# Altium schematic symbol library ESender_SCH_Lib.SchLib: 87 symbols (part 1 of 2)
Pins are listed as number, name and electrical type; pins without a type are passive.

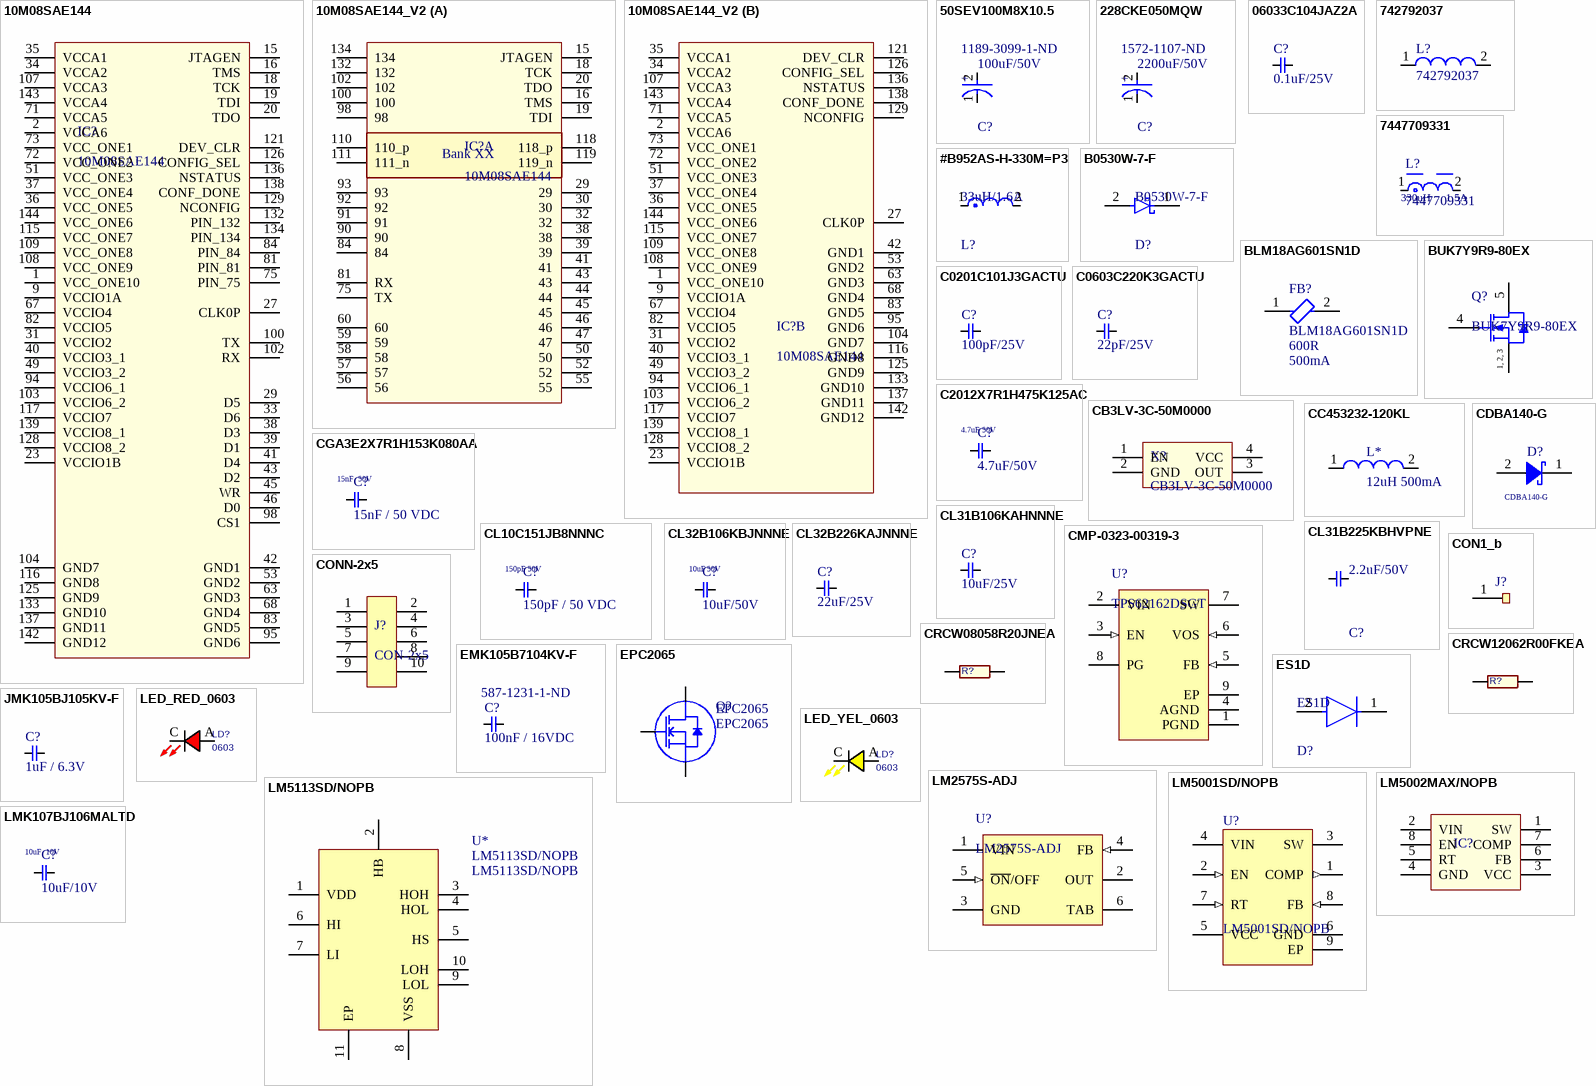
[diagram p0: symbols 10M08SAE144 to LMK107BJ106MALTD]

## 10M08SAE144
designator IC?
Manufacturer Part Number: 10M08SAE144C8G; Manufacturer: Intel; Supplier 1: Digi-Key; Supplier Part Number 1: 544-3132-ND
footprint SQFP50P2200X2200X200-144N (SQFP, 144-Leads, Body 20.00x20.00mm, Pitch 0.50mm, IPC Medium Density)
pins: 1 VCC_ONE10, 2 VCCA6, 9 VCCIO1A, 15 JTAGEN, 16 TMS, 18 TCK, 19 TDI, 20 TDO, 23 VCCIO1B, 27 CLK0P, 29 D5, 31 VCCIO2, 33 D6, 34 VCCA2, 35 VCCA1, 36 VCC_ONE5, 37 VCC_ONE4, 38 D3, 39 D1, 40 VCCIO3_1, 41 D4, 42 GND1, 43 D2, 45 WR, 46 D0, 49 VCCIO3_2, 51 VCC_ONE3, 53 GND2, 63 GND3, 67 VCCIO4, 68 GND4, 71 VCCA5, 72 VCC_ONE2, 73 VCC_ONE1, 75 PIN_75, 81 PIN_81, 82 VCCIO5, 83 GND5, 84 PIN_84, 94 VCCIO6_1, 95 GND6, 98 CS1, 100 TX, 102 RX, 103 VCCIO6_2, 104 GND7, 107 VCCA3, 108 VCC_ONE9, 109 VCC_ONE8, 115 VCC_ONE7, 116 GND8, 117 VCCIO7, 121 DEV_CLR, 125 GND9, 126 CONFIG_SEL, 128 VCCIO8_2, 129 NCONFIG, 132 PIN_132, 133 GND10, 134 PIN_134, 136 NSTATUS, 137 GND11, 138 CONF_DONE, 139 VCCIO8_1, 142 GND12, 143 VCCA4, 144 VCC_ONE6

## 10M08SAE144_V2
designator IC?, comment 10M08SAE144
Manufacturer Part Number: 10M08SAE144C8G; Manufacturer: Intel; Supplier 1: Digi-Key; Supplier Part Number 1: 544-3132-ND
footprint SQFP50P2200X2200X200-144N (SQFP, 144-Leads, Body 20.00x20.00mm, Pitch 0.50mm, IPC Medium Density)
part A pins: 15 JTAGEN, 16 TMS, 18 TCK, 19 TDI, 20 TDO, 29, 30, 32, 38, 39, 41, 43, 44, 45, 46, 47, 50, 52, 55, 56, 57, 58, 59, 60, 75 TX, 81 RX, 84, 90, 91, 92, 93, 98, 100, 102, 110 110_p, 111 111_n, 118 118_p, 119 119_n, 132, 134
part B pins: 1 VCC_ONE10, 2 VCCA6, 9 VCCIO1A, 23 VCCIO1B, 27 CLK0P, 31 VCCIO2, 34 VCCA2, 35 VCCA1, 36 VCC_ONE5, 37 VCC_ONE4, 40 VCCIO3_1, 42 GND1, 49 VCCIO3_2, 51 VCC_ONE3, 53 GND2, 63 GND3, 67 VCCIO4, 68 GND4, 71 VCCA5, 72 VCC_ONE2, 73 VCC_ONE1, 82 VCCIO5, 83 GND5, 94 VCCIO6_1, 95 GND6, 103 VCCIO6_2, 104 GND7, 107 VCCA3, 108 VCC_ONE9, 109 VCC_ONE8, 115 VCC_ONE7, 116 GND8, 117 VCCIO7, 121 DEV_CLR, 125 GND9, 126 CONFIG_SEL, 128 VCCIO8_2, 129 NCONFIG, 133 GND10, 136 NSTATUS, 137 GND11, 138 CONF_DONE, 139 VCCIO8_1, 142 GND12, 143 VCCA4, 144 VCC_ONE6
part A text: Bank XX

## 50SEV100M8X10.5
designator C?, comment 100uF/50V  Supplier Part Number 1: 1189-3099-1-ND
100 µF 50 V Aluminum Electrolytic Capacitors Radial, Can - SMD 2000 Hrs @ 85°C; Manufacturer: Rubycon; Manufacturer Part Number: 50SEV100M8X10.5; Capacitance: 100uF; Life (Hours): 2000Hour; Polarity: Polar; Q Factor: 0.12; Ripple Current: 320mA; Tolerance: 20%; Voltage Rating: 50V; Case/Package: Radial; Category: Aluminum Electrolytic Capacitors; Construction: Cylindrical; Diameter: 8mm; Height: 10.5mm; Height - Seated (Max): 0.413inch; Lead Free: Lead Free; Max Operating Temperature: 85°C; Min Operating Temperature: -40°C; Mount: Surface Mount; Package Quantity: 500; Packaging: Tape and Reel; Radiation Hardening: No; RoHS Compliant: Yes; Series: SEV; ComponentLink1URL: https://datasheet.ciiva.com/6317/sev-series-6317454.pdf?src-supplier=Digi-Key; ComponentLink1Description: https://datasheet.ciiva.com/6317/sev-series-6317454.pdf?src-supplier=Digi-Key; Supplier 1: Digi-Key
footprint FP-SGV8X10_5-MFG
pins: 1 C, 2 A
text: +

## 228CKE050MQW
designator C?, comment 2200uF/50V  Supplier Part Number 1: 1572-1107-ND
2200 µF 50 V Aluminum Electrolytic Capacitors Radial, Can 105.5mOhm @ 120Hz 2000 Hrs @ 105°C; Manufacturer: CDE Illinois Capacitor; Manufacturer Part Number: 228CKE050MQW; Voltage Rating (DC): 50V; Capacitance: 2.2mF; ESR (Equivalent Series Resistance): 105.5mR; Life (Hours): 2000Hour; Polarity: Polar; Ripple Current: 1.41A; Tolerance: 20%; Case/Package: Radial; Category: Aluminum Electrolytic Capacitors; Height - Seated (Max): 1.24inch; Lead Pitch: 0.295inch; Max Operating Temperature: 105°C; Min Operating Temperature: -40°C; Mount: Through Hole,PCB; Package Quantity: 50; Packaging: Bulk; Voltage Rating: 50V; ComponentLink1URL: https://datasheet.ciiva.com/14585/70111748-14585886.pdf?src-supplier=Allied+Electronics; ComponentLink1Description: https://datasheet.ciiva.com/14585/70111748-14585886.pdf?src-supplier=Allied+Electronics; Supplier 1: Digi-Key
footprint FP-228CKE050MQW (CAP ALUM 2200UF 20% 50V RADIAL)
pins: 1 C, 2 A
text: +

## 06033C104JAZ2A
designator C?, comment 0.1uF/25V
0.1µF ±5% 25V Ceramic Capacitor X7R 0603 (1608 Metric); Manufacturer: Kyocera AVX; Manufacturer Part Number: 06033C104JAZ2A; Capacitance: 100nF; ComponentLink1URL: http://catalogs.avx.com/SurfaceMount.pdf?src-supplier=Digi-Key; ComponentLink1Description: http://catalogs.avx.com/SurfaceMount.pdf?src-supplier=Digi-Key; Case/Package: 0603; Category: Ceramic Capacitors; Dielectric: X7R; Features: Soft Termination; Length: 0.063inch; Max Operating Temperature: 125°C; Min Operating Temperature: -55°C; Mount: Surface Mount; Package Quantity: 4000; Packaging: Tape and Reel; RoHS Compliant: Yes; Thickness: 0.035inch; Tolerance: 5%; Voltage Rating: 25V; Voltage Rating (DC): 25V; Width: 0.031inch
footprint C-0603 (Capacitors 0603)
pins: 1 G, 2 G

## 742792037
designator L?
SMD EMI Suppression Ferrite Bead WE-CBF, Z = 330 Ohm; Impedance: 330 Ohm; PackageReference: SMD-0805; ComponentLink1URL: http://www.we-online.com; PackageVersion: 2005; ComponentLink2URL: http://www.we-online.de/katalog/media/pdf/742792037.pdf; ComponentLink1Description: Manufacturer Link; DatasheetVersion: Dec-2005; PackageDescription: Chip Inductor, 2-Leads, Body 2.0 x 1.2 mm; ComponentLink2Description: Datasheet
footprint SMD-0805 (Chip Inductor, 2-Leads, Body 2.0x1.2mm)
pins: 1, 2

## 7447709331
designator L?  RMS Current (Irms): 1.5A  Inductance: 330uH
FIXED IND 330UH 1.5A 430MOHM SMD; Manufacturer: Wurth Electronics; Core Material: Ferrite; DC Resistance (DCR): 430mR; Inductance Tolerance: 20%; Saturation Current: 1.7A; Self Resonant Frequency: 2MHz; Shielding: Shielded; Test Frequency: 1kHz; Supplier Unit Price 1: $2.57; Case Code (Imperial): 1210; Case Code (Metric): 3225; Case/Package: Nonstandard; Category: Fixed Inductors; Current Rating: 1.5A; Depth: 12mm; Height: 10mm; Height - Seated (Max): 0.394inch; Lead Free: Lead Free; Lead Pitch: 7mm; Length: 12mm; Max DC Current: 1.5A; Max Operating Temperature: 125°C; Min Operating Temperature: -40°C; Mount: Surface Mount; Package Quantity: 250; Packaging: Tape and Reel; REACH SVHC: Unknown; Resistance: 430mR; Resistor Type: Wirewound; RoHS Compliant: Yes; Series: WE-PD; Series Resistance: 430mR; Termination: SMD/SMT; Tolerance: 20%; Width: 12mm; Supplier 1: Digi-Key; Supplier Part Number 1: 732-1698-1-ND; Supplier Packaging 1: Cut Tape; Supplier Location 1: US; Supplier 2: Mouser; Supplier Part Number 2: 710-7447709331; Supplier Packaging 2: Tape & Reel; Supplier Unit Price 2: $2.57; Supplier Location 2: US; Supplier 3: Farnell; Supplier Part Number 3: 2082655; Supplier Packaging 3: Cut Tape; Supplier Unit Price 3: £1.88; Supplier Location 3: GB; Manufacturer Part Number: 7447709331
footprint FP-7447709680-MFG
pins: 1, 2

## #B952AS-H-330M=P3
designator L?, comment 33uH/1.6A
Shielded Wirewound Inductor 33uH 20% 1600mA 0.125Ω SMD; Current Rating: 1.6A; Saturation Current: 2A; DC Resistance (DCR): 125mR; Core Material: Ferrite; Test Frequency: 100kHz; Shielding: Shielded; Tolerance: 20%; Height - Seated (Max): 0.19inch; Mount: Surface Mount; Resistor Type: Wirewound; Inductance: 33uH; Packaging: Tape and Reel; Min Operating Temperature: -40°C; Length: 0.409inch; Width: 0.409inch; Case/Package: Nonstandard; Max Operating Temperature: 85°C
footprint FP-DS104C2-MFG
pins: 1, 2

## B0530W-7-F
designator D?
DIODE SCHOTTKY 30V 500MA SOD123; Manufacturer: Diodes Inc.; Max Surge Forward Current: 5.5A; Forward Current: 0.5A; Max Junction Temp: +125°C; Standoff Height: 0mm; Capacitance: 170pF; Value: 170pF; Peak Reverse Current: 130uA; Footprint Url: https://www.diodes.com/assets/Package-Files/SOD123.pdf; Device Class L1: Discrete Semiconductors; ComponentLink2Description: Datasheet; Mouser Description: Schottky Diodes & Rectifiers 30V 410mW; Device Class L3: Schottky Diodes; Package: SOD123; Temperature: -65°C to +125°C; Temperature Range Low: -65°C; Lead Free: Yes; Digikey Description: DIODE SCHOTTKY 30V 500MA SOD123; Ipc Land Pattern Name: SOD365155X123-2; Automotive: No; Octopart: https://octopart.com/b0530w-7-f-diodes+inc.-325721; Device Class L2: Diodes; ComponentLink2URL: https://www.diodes.com/assets/Datasheets/ds30139.pdf; RoHS: TRUE; Height: 1.45mm; Max Repetitive Reverse Voltage: 30V; Category: Diode; Temperature Range High: +125°C; Manufacturer Part Number: B0530W-7-F; Reverse Voltage: 30V
footprint FP-SOD123-IPC_B
pins: 1 C, 2 A

## BLM18AG601SN1D
designator FB?  Impedance: 600R  Max DC Current: 500mA
600 Ohms @ 100 MHz 1 Ferrite Bead 0603 (1608 Metric) 500mA 380mOhm; Manufacturer: Murata; DC Resistance (DCR): 380mR; Frequency: 100MHz; Material: Steel,Ferrite; Number of Circuits: 1; Shielding: Unshielded; Tolerance: 25%; Supplier Part Number 2: 81-BLM11A601S; Case Code (Imperial): 0603; Case Code (Metric): 1608; Case/Package: 0603; Category: Inductors; Core Material: Ferrite; Current Rating: 500mA; DC Current: 500mA; Depth: 0.8mm; Height: 0.8mm; Lead Free: Lead Free; Length: 1.6mm; Max Current Rating: 500mA; Max Operating Temperature: 125°C; Military Standard: Not; Min Operating Temperature: -55°C; Number of Lines: 1; Number of Pins: 2; Package Quantity: 1; Packaging: Tape and Reel; Radiation Hardening: No; REACH SVHC: No SVHC; RoHS Compliant: Yes; Termination: SMD/SMT; Test Frequency: 100MHz; Weight: 7.1E-05oz; Width: 0.8mm; Supplier 1: Digi-Key; Supplier Part Number 1: 490-1014-1-ND; Supplier Packaging 1: Cut Tape; Supplier Unit Price 1: $0.10; Supplier Location 1: US; Supplier 2: Mouser; Supplier Packaging 2: Tape & Reel; Supplier Unit Price 2: $0.13; Supplier Location 2: US; Supplier 3: Farnell; Supplier Part Number 3: 1515679; Supplier Packaging 3: Cut Tape; Supplier Unit Price 3: £0.027; Supplier Location 3: GB; Manufacturer Part Number: BLM18AG601SN1D
footprint BLM18AG601SN1D
footprint FP-BLM31-0_2-t1_1-MFG
pins: 1, 2

## BUK7Y9R9-80EX
designator Q?
N-Channel 80V 89A (Tc) 195W (Tc) Surface Mount LFPAK56, Power-SO8; Manufacturer: Nexperia; Category: MOSFETs; Manufacturer Part Number: BUK7Y9R9-80EX; RoHS Compliant: No; ComponentLink1URL: https://assets.nexperia.com/documents/data-sheet/BUK7Y9R9-80E.pdf?src-supplier=Digi-Key; ComponentLink1Description: https://assets.nexperia.com/documents/data-sheet/BUK7Y9R9-80E.pdf?src-supplier=Digi-Key
footprint NXP-SOT669_N (DPAK, 4-Leads, Body 5x4.1mm, Pitch 1.27mm, IPC Medium Density)
footprint BUK7Y9R) (MOS FET)
pins: 1 S "source", 2 S "source", 3 S "source", 4 G "gate", 5 D "mounting base; connected to drain"
text: 1, 2, 3

## C0201C101J3GACTU
designator C?, comment 100pF/25V
100pF ±5% 25V Ceramic Capacitor C0G, NP0 0201 (0603 Metric); Manufacturer: KEMET; Manufacturer Part Number: C0201C101J3GACTU; Capacitance: 100pF; Case Code (Imperial): 0201; Case Code (Metric): 0603; Case/Package: 0201; Category: Ceramic Capacitors; Construction: Flat; Depth: 0.3mm; Dielectric: C0G; Height: 0.3mm; Length: 0.6mm; Max Operating Temperature: 125°C; Min Operating Temperature: -55°C; Mount: Surface Mount; Package Quantity: 1; Packaging: Tape and Reel; Radiation Hardening: No; RoHS Compliant: Yes; Series: C; Thickness: 0.013inch; Tolerance: 5%; Voltage: 25V; Voltage Rating: 25V; Width: 0.3mm; ComponentLink1URL: https://datasheet.ciiva.com/25795/cl31b106kahnnne-25795260.pdf?src-supplier=Digi-Key; ComponentLink1Description: https://datasheet.ciiva.com/25795/cl31b106kahnnne-25795260.pdf?src-supplier=Digi-Key; Contact Plating: Tin,Matte; REACH SVHC: No SVHC; Termination: SMD/SMT; Voltage Rating (DC): 25V; Weight: 6E-06oz
footprint C-0603 (Capacitors 0603)
pins: 1 G, 2 G

## C0603C220K3GACTU
designator C?, comment 22pF/25V
22pF ±10% 25V Ceramic Capacitor C0G, NP0 0603 (1608 Metric); Manufacturer: KEMET; Manufacturer Part Number: C0603C220K3GACTU; Dissipation Factor: 0.1%; Width: 0.031inch; Capacitance: 22pF; Case Code (Imperial): 0603; Case Code (Metric): 1608; Case/Package: 0603; Category: Ceramic Capacitors; Construction: Flat; Contact Plating: Tin,Matte; Depth: 0.8mm; Dielectric: C0G; Dielectric Material: Ceramic; Height: 0.8mm; Lead Free: Lead Free; Lead Pitch: 0.7mm; Length: 1.6mm; Max Operating Temperature: 125°C; Min Operating Temperature: -55°C; Mount: Surface Mount; Package Quantity: 4000; Packaging: Tape and Reel; Radiation Hardening: No; RoHS Compliant: Yes; Series: C; Termination: SMD/SMT; Thickness: 0.034inch; Tolerance: 10%; Voltage Rating: 25V; Voltage Rating (DC): 25V; ComponentLink1URL: https://datasheet.ciiva.com/5413/kem-c1003-c0g-smd-356956-5413159.pdf?src-supplier=Mouser; ComponentLink1Description: https://datasheet.ciiva.com/5413/kem-c1003-c0g-smd-356956-5413159.pdf?src-supplier=Mouser
footprint C-0603 (Capacitors 0603)
pins: 1 G, 2 G

## C2012X7R1H475K125AC
designator C?, comment 4.7uF/50V  Voltage: 50V  Capacitance: 4.7uF
4.7uF 50V 10% 0805 T/R Multilayer Ceramic Capacitor; Manufacturer: TDK; Manufacturer Part Number: C2012X7R1H475K125AC; Category: Ceramic Capacitors; RoHS Compliant: No; Supplier 1: Digi-Key; RoHS: Yes; Stock 1: 123424; Pricing 1: 1=0.57000, 10=0.40600, 50=0.30680, 100=0.26730, 500=0.19800, 1000=0.16830 (USD); Supplier 2: Mouser; Supplier Part Number 2: 810-C2012X7R475K125C; Supplier Part Number 1: 445-C2012X7R1H475K125ACCT-ND
footprint FP-C2012X7R1H475K125AC-IPC_B
pins: 1 G, 2 G

## CB3LV-3C-50M0000
designator X?
Manufacturer: CTS-Frequency Controls; Supplier 1: Digi-Key; Supplier Part Number 1: CTX283LVCT-ND; Manufacturer Part Number: CB3LV-3C-50M0000
footprint OSC
pins: 1 EN, 2 GND, 3 OUT, 4 VCC

## CC453232-120KL
designator L*, comment 12uH 500mA
choke ferrite 12uH, 500mA
footprint 1812
pins: 1, 2

## CDBA140-G
designator D?, comment Manufacturer Part Number: CDBA140-G  (hidden comment: DIODE SCHOTTKY 40V 1A DO214AC)
Diode Schottky 40 V 1A Surface Mount DO-214AC (SMA); Manufacturer: Comchip; Max Reverse Leakage Current: 500uA; Max Surge Current: 30A; Polarity: Standard; Voltage Rating (DC): 40V; Average Rectified Current: 1A; Case/Package: DO-214AC; Category: Rectifier Diodes; Current Rating: 1A; Lead Free: Lead Free; Max Reverse Voltage (DC): 40V; Mount: Surface Mount; Output Current: 1A; Package Quantity: 1; Packaging: Tape and Reel; RoHS Compliant: Yes; ComponentLink1URL: https://datasheet.ciiva.com/912/cdba120-gthru934256-cdba1100-grevc-912051.pdf?src-supplier=Digi-Key; ComponentLink1Description: https://datasheet.ciiva.com/912/cdba120-gthru934256-cdba1100-grevc-912051.pdf?src-supplier=Digi-Key; Supplier 1: Digi-Key; Supplier 2: Mouser; Supplier Part Number 1: 641-1015-1-ND; Supplier Part Number 2: 750-CDBA140-G
footprint FP-SMA-MFG
pins: 1 K, 2 A

## CGA3E2X7R1H153K080AA
designator C?, comment 15nF / 50 VDC  Capacitance: 15nF  Voltage Rating: 50V
15 nF 50V ±10%  Ceramic Capacitor X7R 0603 (1608 Metric); Manufacturer: TDK; Manufacturer Part Number: CGA3E2X7R1H153K080AA; Case Code (Imperial): 0603; Case Code (Metric): 1608; Case/Package: 0603; Category: Ceramic Capacitors; Depth: 0.8mm; Dielectric: X7R; Height: 0.8mm; Length: 1.6mm; Max Operating Temperature: 125°C; Min Operating Temperature: -55°C; Mount: Surface Mount; Package Quantity: 1; Packaging: Tape and Reel; Ratings: AEC-Q200; Resistor Type: Ceramic; RoHS Compliant: Yes; Series: CGA; Termination: SMD/SMT; Thickness: 0.035inch; Tolerance: 10%; Voltage Rating (DC): 50V; Weight: 7.1E-05oz; Width: 0.031inch; ComponentLink1URL: https://datasheet.ciiva.com/24219/cga3e2x7r1h153k080aa-266046-24219120.pdf?src-supplier=Mouser; ComponentLink1Description: https://datasheet.ciiva.com/24219/cga3e2x7r1h153k080aa-266046-24219120.pdf?src-supplier=Mouser; Supplier 1: Digi-Key; Supplier 2: Mouser; Supplier Part Number 1: 445-6923-1-ND; Supplier Part Number 2: 810-CGA3E2X7R1H153K
footprint FP-0603-UMK107BJ104KAHT-IPC_B
pins: 1 G, 2 G

## CL10C151JB8NNNC
designator C?, comment 150pF / 50 VDC  Capacitance: 150pF  Voltage Rating (DC): 50V
150 pF ±5% 50V Ceramic Capacitor C0G, NP0 0603 (1608 Metric); Manufacturer: Samsung; Manufacturer Part Number: CL10C151JB8NNNC; Temperature Coefficient: 300ppm/°C; Case Code (Imperial): 0603; Case Code (Metric): 1608; Case/Package: 0603; Category: Ceramic Capacitors; Construction: Flat; Contact Plating: Tin; Depth: 0.8mm; Dielectric: C0G; Height: 0.8mm; Lead Free: Lead Free; Length: 1.6mm; Material: Ceramic; Max Operating Temperature: 125°C; Min Operating Temperature: -55°C; Mount: Surface Mount; Package Quantity: 1; Packaging: Tape and Reel; Radiation Hardening: No; RoHS Compliant: Yes; Series: CL; Thickness: 0.035inch; Tolerance: 5%; Voltage: 50V; Voltage Rating: 50V; Width: 0.031inch; ComponentLink1URL: https://datasheet.ciiva.com/15195/getdatasheetpartid-354057-15195800.pdf?src-supplier=Verical; ComponentLink1Description: https://datasheet.ciiva.com/15195/getdatasheetpartid-354057-15195800.pdf?src-supplier=Verical
footprint FP-CL10-IPC_B
pins: 1 G, 2 G

## CL31B106KAHNNNE
designator C?, comment 10uF/25V
10µF ±10% 25V Ceramic Capacitor X7R 1206 (3216 Metric); Manufacturer: Samsung; Manufacturer Part Number: CL31B106KAHNNNE; Capacitance: 10uF; Case Code (Imperial): 1206; Case Code (Metric): 3216; Case/Package: 1206; Category: Ceramic Capacitors; Construction: Flat; Depth: 1.6mm; Dielectric: X7R; Height: 1.6mm; Length: 3.2mm; Max Operating Temperature: 125°C; Min Operating Temperature: -55°C; Mount: Surface Mount; Package Quantity: 1; Packaging: Tape and Reel; Radiation Hardening: No; RoHS Compliant: Yes; Series: CL; Thickness: 0.071inch; Tolerance: 10%; Voltage: 25V; Voltage Rating: 25V; Width: 0.063inch; ComponentLink1URL: https://datasheet.ciiva.com/25795/cl31b106kahnnne-25795260.pdf?src-supplier=Digi-Key; ComponentLink1Description: https://datasheet.ciiva.com/25795/cl31b106kahnnne-25795260.pdf?src-supplier=Digi-Key
footprint C-1206 (3216 metric)
pins: 1 G, 2 G

## CL31B225KBHVPNE
designator C?, comment 2.2uF/50V
Cap Ceramic 2.2uF 50V X7R ±10% SMD 1206 +125°C Embossed T/R; Width: 0.063inch; Case/Package: 1206; Tolerance: 10%; Mount: Surface Mount; Capacitance: 2.2uF; Ratings: AEC-Q200; Thickness: 0.071inch; Voltage Rating: 50V; Features: Soft Termination; Case Code (Metric): 3216; Length: 0.126inch; Packaging: Tape and Reel; Max Operating Temperature: 125°C; Min Operating Temperature: -55°C; Case Code (Imperial): 1206; Dielectric: X7R
footprint FP-CL31-IPC_B
pins: 1 G, 2 G

## CL32B106KBJNNNE
designator C?, comment 10uF/50V  Voltage: 50V  Capacitance: 10uF
10 µF 50V ±10%  Ceramic Capacitor X7R 1210 (3225 Metric); Manufacturer: Samsung; Manufacturer Part Number: CL32B106KBJNNNE; Supplier 1: Mouser; Supplier 2: Mouser; Case Code (Imperial): 1210; Case Code (Metric): 3225; Case/Package: 1210; Category: Ceramic Capacitors; Construction: Flat; Depth: 2.5mm; Dielectric: X7R; Height: 2.5mm; Lead Free: Lead Free; Length: 3.2mm; Material: Ceramic; Max Operating Temperature: 125°C; Min Operating Temperature: -55°C; Mount: Surface Mount; Package Quantity: 1; Packaging: Tape and Reel; Radiation Hardening: No; RoHS Compliant: Yes; Series: CL; Thickness: 0.106inch; Tolerance: 10%; Voltage Rating: 50V; Voltage Rating (DC): 50V; Width: 0.098inch; Supplier Packaging 1: Tape & Reel; Supplier Unit Price 1: $0.59; Supplier Location 1: US; ComponentLink1URL: https://datasheet.ciiva.com/25766/cl32b106kbjnnne-25766545.pdf?src-supplier=Digi-Key; ComponentLink1Description: https://datasheet.ciiva.com/25766/cl32b106kbjnnne-25766545.pdf?src-supplier=Digi-Key; Supplier Part Number 1: 187-CL32B106KBJNNNE; Supplier Part Number 2: 187-CL32B106KBJNNNE
footprint CAP-1210 10u/50V
footprint CAP-1210 (Capacitors, SMD, 1210)
pins: 1 G, 2 G

## CL32B226KAJNNNE
designator C?, comment 22uF/25V
22µF ±10% 25V Ceramic Capacitor X7R 1210 (3225 Metric); Manufacturer: Samsung; Manufacturer Part Number: CL32B226KAJNNNE; Capacitance: 22uF; Case Code (Imperial): 1210; Case Code (Metric): 3225; Case/Package: 1210; Category: Ceramic Capacitors; Construction: Flat; Depth: 2.5mm; Dielectric: X7R; Height: 2.5mm; Lead Free: Lead Free; Length: 3.2mm; Material: Ceramic; Max Operating Temperature: 125°C; Min Operating Temperature: -55°C; Mount: Surface Mount; Package Quantity: 1; Packaging: Tape and Reel; Radiation Hardening: No; RoHS Compliant: Yes; Series: CL; Thickness: 0.106inch; Tolerance: 10%; Voltage Rating: 25V; Voltage Rating (DC): 25V; Width: 0.098inch
footprint CAP-1210 (Capacitors, SMD, 1210)
pins: 1 G, 2 G

## CMP-0323-00319-3
designator U?, comment TPS62162DSGT
Buck Step Down Regulator with 3 to 17 V Input and 3.3 V Output, -40 to 85 degC, 8-Pin WSON (DSG), Green (RoHS & no Sb/Br); Manufacturer: Texas Instruments; Synchronous Rectification: TRUE; Iq(Typ)(mA): 0.017; Switch Current Limit(Typ)(A): 1.8; Regulated Outputs(#): 1; Duty Cycle(Max)(%): 100; SubFamily: Step-Down Regulator; Preset Vout(V): 3.3; Rating: Catalog; Vin(Max)(V): 17; Vin(Min)(V): 3; ComponentLink2Description: Package Specification; PackageVersion: revB, Oct-2010; DatasheetVersion: SLVSAM2A; ComponentLink1Description: Datasheet; PackageDescription: 8-Pin Plastic Small Outline No-Lead, 2 x 2 x 0.8 mm Body, 0.5 mm Pitch, Exposed Pad; ComponentLink2URL: http://www.ti.com/litv/pdf/mpds308a; Code_JEDEC: MO-229; PartNumber: TPS62162DSGT; ComponentLink3URL: Samples URL:http://www.ti.com/product/tps54611#samples; Mounting Technology: Surface Mount; Eco-Plan: Green (RoHS & no Sb/Br); Vout(Min)(V): 3.3; PackageReference: DSG0008A; Topology: Buck; ComponentLink1URL: http://www.ti.com/general/docs/lit/getliterature.tsp?genericPartNumber=TPS62162&fileType=pdf; Vout(Max)(V): 3.3; Iout(Max)(A): 1; ComponentLink3Description: URL Link1
footprint DSG0008A_V (SON, 8-Leads, Body 2x2mm, Pitch 0.5mm, Thermal Pad 1.6x0.9mm, TI Recommended)
pins: 1 PGND (power) "Power ground", 2 VIN (power) "Supply voltage", 3 EN (in) "Enable input (High = enabled, Low = disabled)", 4 AGND (power) "Analog Ground", 5 FB (in) "Voltage feedback of adjustable version. Connect resistive voltage divider to this pin. It is recommended to connect FB to AGND on fixed output voltage versions for improved thermal performance.", 6 VOS (in) "Output voltage sense pin and connection for the control loop circuitry.", 7 SW (power) "Switch node, which is connected to the internal MOSFET switches.Connect inductor between SW and output capacitor.", 8 PG (hiz) "Output power good (High = VOUT ready, Low = VOUT below nominal regulation) ; open drain (requires pull-up resistor; goes high impedance, when device is switched off)", 9 EP (power) "Must be connected to AGND. Must be soldered to achieve appropriate power dissipation and mechanical Thermal Pad reliability."

## CON1_b
designator J?  (value not drawn)
footprint CONN1 _b
pins: 1 23

## CONN-2x5
designator J?, comment CON-2x5
Manufacturer: Harwin Inc.; Manufacturer Part Number: M20-9970546
footprint PIN-2X5-2.54-1.0 (Pin Header)
pins: 1 VCC, 2 VCC, 3 VCC, 4 VCC, 5 VCC, 6 VCC, 7 VCC, 8 VCC, 9 VCC, 10 VCC

## CRCW08058R20JNEA
designator R?, comment 8.2R  (value not drawn)
8.2 Ohms ±5% 0.125W, 1/8W Chip Resistor 0805 (2012 Metric) Automotive AEC-Q200 Thick Film; Manufacturer: Vishay Dale; Manufacturer Part Number: CRCW08058R20JNEA; Max Power Dissipation: 125mW; Temperature Coefficient: 200ppm/°C; Voltage Rating: 150V; Case Code (Imperial): 0805; Case Code (Metric): 2012; Case/Package: 0805; Category: Chip SMD Resistors; Construction: Rectangular; Contact Plating: Tin; Depth: 1.25mm; Features: Automotive AEC-Q200; Height: 0.02inch; Lead Free: Lead Free; Length: 2mm; Max Operating Temperature: 155°C; Military Standard: Not; Min Operating Temperature: -55°C; Mount: Surface Mount; Number of Pins: 2; Number of Terminations: 2; Package Quantity: 1; Packaging: Tape and Reel; Power Rating: 125mW; Radiation Hardening: No; REACH SVHC: Unknown; Resistance: 8.2R; Resistance Tolerance: 5%; Resistor Type: Thick Film; RoHS Compliant: Yes; Series: CRCW; Size Code: 0805; Tolerance: 5%; Voltage Rating (DC): 150V; Weight: 0.000194oz; Width: 1.25mm; ComponentLink1URL: https://datasheet.ciiva.com/2512/dcrcwe3-2512297.pdf?src-supplier=Digi-Key; ComponentLink1Description: https://datasheet.ciiva.com/2512/dcrcwe3-2512297.pdf?src-supplier=Digi-Key
footprint RES-0805 (SMD, 0805)
pins: 1, 2

## CRCW12062R00FKEA
designator R?, comment 0R  (value not drawn)
2 Ohms ±1% 0.25W, 1/4W Chip Resistor 1206 (3216 Metric) Automotive AEC-Q200 Thick Film; Manufacturer: Vishay Dale; Manufacturer Part Number: CRCW12062R00FKEA; Max Power Dissipation: 250mW; Resistance: 2R; Temperature Coefficient: 100ppm/°C; Voltage Rating: 200V; Case Code (Imperial): 1206; Case Code (Metric): 3216; Case/Package: 1206; Category: Chip SMD Resistors; Construction: Rectangular; Contact Plating: Tin; Depth: 1.6mm; Features: Automotive AEC-Q200; Height: 0.024inch; Lead Free: Lead Free; Length: 3.2mm; Max Operating Temperature: 155°C; Military Standard: Not; Min Operating Temperature: -55°C; Number of Pins: 2; Number of Terminations: 2; Package Quantity: 10; Packaging: Tape and Reel; Power Rating: 250mW; Radiation Hardening: No; REACH SVHC: Unknown; Resistance Tolerance: 1%; Resistor Type: Thick Film; RoHS Compliant: Yes; Series: CRCW; Termination: SMD/SMT; Tolerance: 1%; Voltage Rating (DC): 200V; Weight: 0.000353oz; Width: 1.6mm; ComponentLink1URL: https://datasheet.ciiva.com/2469/dcrcwe3-2469237.pdf?src-supplier=Digi-Key; ComponentLink1Description: https://datasheet.ciiva.com/2469/dcrcwe3-2469237.pdf?src-supplier=Digi-Key
footprint RESC3216X60X45NL10T20 (Chip Resistor, 2-Leads, Body 3.20x1.60mm, IPC Medium Density)
pins: 1, 2

## EMK105B7104KV-F
designator C?, comment 100nF / 16VDC  Supplier Part Number 1: 587-1231-1-ND
0.1uF 16VDC 0402 10% X7R Multilayer Ceramic Capacitors MLCC - SMD/SMT; Manufacturer: Taiyo Yuden; Manufacturer Part Number: EMK105B7104KV-F; Voltage Rating: 16V; Capacitance: 100nF; Case Code (Imperial): 0402; Case Code (Metric): 1005; Case/Package: 0402; Category: Ceramic Capacitors; Construction: Flat; Depth: 0.5mm; Dielectric: X7R; Halogen Free: Halogen Free; Height: 0.5mm; Lead Free: Lead Free; Length: 1mm; Max Operating Temperature: 125°C; Min Operating Temperature: -55°C; Mount: Surface Mount; Number of Pins: 2; Package Quantity: 1; Packaging: Tape and Reel; Radiation Hardening: No; REACH SVHC: Unknown; Resistor Type: Ceramic; RoHS Compliant: Yes; Series: M; Termination: SMD/SMT; Thickness: 0.022inch; Tolerance: 10%; Voltage Rating (DC): 16V; Width: 0.02inch; ComponentLink1URL: https://datasheet.ciiva.com/129/emk105b7104kv-f-ss-129714.pdf?src-supplier=Digi-Key; ComponentLink1Description: https://datasheet.ciiva.com/129/emk105b7104kv-f-ss-129714.pdf?src-supplier=Digi-Key; Datasheet: *; Supplier 1: Digi-Key
footprint CAP-0402 (Footprint for EMK105B7104KV-F)
pins: 1 G, 2 G

## EPC2065
designator Q?
N-Channel 80 V 60A (Ta) Surface Mount Die; QSGdescript: 80 V 60A 3.6mE; MFG: EPC; Part Number: EPC2065; EPC Part Number: EPC2065; Status: Released; Supplier 1: Digi-Key; Supplier Part Number 1: 917-EPC2065TR-ND; Supplier 2: Digi-Key; Supplier 3: Digi-Key; SchDescript: 80 V 60A 3.6mE; MFGPN: EPC2065
footprint D0320T34M
pins: 1 G, 2 S, 3 D, 4 S, 5 D, 6 S, 7 D, 8 S

## ES1D
designator D?
DIODE GEN PURP 200V 1A SMA; Manufacturer: ON Semi; Peak Reverse Current: 5uA; Value: 7pF; Max Surge Forward Current: 30A; Max Junction Temp: +150°C; Standoff Height: 0.05mm; Temperature Range High: +150°C; Footprint Url: http://www.onsemi.com/pub/Collateral/403AE.PDF; Category: Diode; Device Class L3: Rectifier Diodes; RoHS: TRUE; Package: 403AE; Temperature Range Low: -50°C; Lead Free: Yes; Device Class L1: Discrete Semiconductors; ComponentLink2Description: Datasheet; Device Class L2: Diodes; Capacitance: 7pF; Temperature: -50°C to +150°C; Manufacturer Part Number: ES1D; Automotive: No; Max Repetitive Reverse Voltage: 200V; Octopart: https://octopart.com/es1d-on+semiconductor-84324855; ComponentLink2URL: https://www.onsemi.jp/PowerSolutions/document/ES1D-D.PDF; Height: 2.5mm; Forward Current: 1A; Digikey Description: DIODE GEN PURP 200V 1A SMA
footprint ES1D
pins: 1 C, 2 A

## JMK105BJ105KV-F
designator C?, comment 1uF / 6.3V
1µF 6.3V ±10%  0402 (1005 Metric) Ceramic Capacitor X5R; Manufacturer: Taiyo Yuden; Manufacturer Part Number: JMK105BJ105KV-F; Capacitance: 1uF; Case Code (Imperial): 0402; Case Code (Metric): 1005; Case/Package: 0402; Category: Ceramic Capacitors; Construction: Flat; Depth: 0.5mm; Dielectric: X5R; Halogen Free: Halogen Free; Height: 0.5mm; Lead Free: Lead Free; Length: 1mm; Max Operating Temperature: 85°C; Min Operating Temperature: -55°C; Mount: Surface Mount; Number of Pins: 2; Package Quantity: 1; Packaging: Tape and Reel; Radiation Hardening: No; REACH SVHC: No SVHC; Resistor Type: Ceramic; RoHS Compliant: Yes; Series: M; Termination: SMD/SMT; Thickness: 0.022inch; Tolerance: 10%; Voltage Rating: 6.3V; Voltage Rating (DC): 6.3V; Width: 0.02inch; ComponentLink1URL: https://datasheet.ciiva.com/131/jmk105bj105kv-f-ss-131392.pdf?src-supplier=Digi-Key; ComponentLink1Description: https://datasheet.ciiva.com/131/jmk105bj105kv-f-ss-131392.pdf?src-supplier=Digi-Key
footprint CAP-0402 (Footprint for EMK105B7104KV-F)
pins: 1 G, 2 G

## LED_RED_0603
designator LD?, comment 0603
0603 RED LED; Manufacturer 1: Osram Opto Semiconductor; Manufacturer Part Number 1: LS Q976-NR-1; Category 1: Standard LEDs - SMD; Description 1: Standard LEDs - SMD Super Red, 633nm 180mcd, 20mA; Forward Current: 25 mA; Forward Voltage: 2.5 V; LED Size: 1.6 mm x 0.8 mm; Luminous Intensity: 180 mcd; Viewing Angle: 160 deg; Wavelength/Colour Temperature: 633 nm; Supplier 1: Mouser; Supplier Part Number 1: 720-LSQ976-NR-1; RoHS 1: RoHS Compliant; Illumination Colour: Red; Package/Case: 0603; Packaging: Reel; Maximum Operating Temperature: + 85 C; Minimum Operating Temperature: - 30 C; Product Category: Standard LED - Surface Mount; Standard Pack Qty: 16000; RoHS - Mouser: Y; Minimum Order Quantity: 1; Reeling: True; ComponentLink1URL: http://catalog.osram-os.com/catalogue/catalogue.do;jsessionid=AB60CE1E306B61160BACE04DB8678132?act=downloadFile&favOid=020000010003fd4e000100b6; ComponentLink1Description: http://catalog.osram-os.com/catalogue/catalogue.do;jsessionid=AB60CE1E306B61160BACE04DB8678132?act=downloadFile&favOid=020000010003fd4e000100b6; Color: RED
footprint LED 0603 Red
pins: A ANODE, C CATHODE

## LED_YEL_0603
designator LD?, comment 0603
0603 YEL LED; Manufacturer 1: Osram Opto Semiconductor; Manufacturer Part Number 1: LY Q976-P1S2-36; Category 1: Standard LEDs - SMD; Description 1: Standard LEDs - SMD Yellow, 587nm 280mcd, 20mA; Illumination Colour: Yellow; Forward Current: 25 mA; Forward Voltage: 2.5 V; LED Size: 1.6 mm x 0.8 mm; Luminous Intensity: 280 mcd; Viewing Angle: 160 deg; Wavelength/Colour Temperature: 587 nm; Supplier 1: Mouser; Supplier Part Number 1: 720-LYQ976-P1S2-36; RoHS 1: RoHS Compliant; Package/Case: 0603; Packaging: Reel; Maximum Operating Temperature: + 85 C; Minimum Operating Temperature: - 30 C; Product Category: Standard LED - Surface Mount; Standard Pack Qty: 16000; RoHS - Mouser: Y; Minimum Order Quantity: 1; Reeling: True; ComponentLink1URL: http://catalog.osram-os.com/catalogue/catalogue.do;jsessionid=AB60CE1E306B61160BACE04DB8678132?act=downloadFile&favOid=020000010003fd4e000100b6; ComponentLink1Description: http://catalog.osram-os.com/catalogue/catalogue.do;jsessionid=AB60CE1E306B61160BACE04DB8678132?act=downloadFile&favOid=020000010003fd4e000100b6; Color: YEL
footprint LED 0603 Yellow
pins: A ANODE, C CATHODE

## LM2575S-ADJ
designator U?
SIMPLE SWITCHER® 1A Step-Down Voltage Regulator, 5-pin TO-263; Manufacturer: Texas Instruments; PowerWise: N; PackageTopMarking: NSUZXYTTE#*LM2575S*-ADJ P+; ComponentLink1Description: Datasheet URL; PackageReference: KTT0005B; RoHS: N; ComponentLink1URL: http://www.ti.com/general/docs/lit/getliterature.tsp?genericPartNumber=LM2575-N&fileType=pdf; CompType: Switcher; PackageDescription: TO-263, Molded, .400 x .390 x .180in, 5 Lead, .067in Pitch, Surface Mount; Code_JEDEC: MO-169-AB; PinCount: 5
footprint KTT0005B_N (DPAK, 5-Leads, Body 10.65x9.65mm, Pitch 1.7mm, IPC Medium Density)
footprint KTT0005B_M (DPAK, 5-Leads, Body 10.65x9.65mm, Pitch 1.7mm, IPC Low Density)
footprint KTT0005B_L (DPAK, 5-Leads, Body 10.65x9.65mm, Pitch 1.7mm, IPC High Density)
pins: 1 VIN (power), 2 OUT (power), 3 GND (power), 4 FB (in), 5 ~{ON}/OFF (in), 6 TAB (power)

## LM5001SD/NOPB
designator U?
High Voltage Switch Mode Regulator, 8-pin LLP, Pb-Free; Manufacturer: TI National Semiconductor; Efficiency: 96%; Max Input Voltage: 75V; Max Output Current: 1A; Min Input Voltage: 3.1V; Min Output Voltage: 1.26V; Number of Outputs: 1; Output Type: Adjustable; Quiescent Current: 3.1mA; Switching Frequency: 1.5MHz; Synchronous Rectifier: No; Topology: Boost,Flyback,SEPIC; ComponentLink1Description: Datasheet URL; ComponentLink1URL: http://www.ti.com/general/docs/lit/getliterature.tsp?genericPartNumber=LM5001&fileType=pdf; Category: Voltage Regulators - Switching; Contact Plating: Tin; Features: UVLO; Height: 0.8mm; Lead Free: Lead Free; Length: 4mm; Manufacturer Part Number: LM5001SD/NOPB; Max Operating Temperature: 125°C; Max Output Voltage: 75V; Min Operating Temperature: -40°C; Min Supply Voltage: 3.1V; Mount: Surface Mount; Number of Pins: 8; Operating Supply Voltage: 75V; Output Current: 1A; Output Voltage: 75V; Package Quantity: 1000; Packaging: Tape and Reel; Radiation Hardening: No; REACH SVHC: No SVHC; RoHS Compliant: Yes; Series: LM5001; Width: 4mm
footprint NGT0008A_V (SON, 8-Leads, Body 4x4mm, Pitch 0.8mm, Thermal Pad 2.6x3mm)
pins: 1 COMP (out), 2 EN (in), 3 SW (power), 4 VIN (power), 5 VCC (power), 6 GND (power), 7 RT (in), 8 FB (in), 9 EP (power)

## LM5002MAX/NOPB
designator IC?, comment IC REG MULTI CONFG ADJ 8SOIC  (value not drawn)
Boost, Flyback, Forward Converter, SEPIC Switching Regulator IC Positive, Isolation Capable Adjustable 3.1V 1 Output 400mA (Switch) 8-SOIC (0.154", 3.90mm Width); Manufacturer: TI National Semiconductor; Manufacturer Part Number: LM5002MA/NOPB; Efficiency: 96%; Max Input Voltage: 75V; Min Output Voltage: 1.26V; Number of Outputs: 1; Output Current: 500mA; Quiescent Current: 3.1mA; Switching Frequency: 1.5MHz; Synchronous Rectifier: No; Topology: Boost,Flyback,SEPIC; Width: 3.9mm; Case/Package: SOIC; Category: Voltage Regulators - Switching; Height: 1.45mm; Lead Free: Lead Free; Length: 4.9mm; Max Operating Temperature: 125°C; Max Output Voltage: 75V; Min Input Voltage: 3.1V; Min Operating Temperature: -40°C; Min Supply Voltage: 3.1V; Mount: Surface Mount; Number of Pins: 8; Operating Supply Voltage: 75V; Output Type: Adjustable; Output Voltage: 75V; Package Quantity: 95; Packaging: Rail/Tube; Radiation Hardening: No; REACH SVHC: No SVHC; RoHS Compliant: Yes; Series: LM5002; ComponentLink1URL: https://datasheet.ciiva.com/6596/lm5002-6596406.pdf?src-supplier=Digi-Key; ComponentLink1Description: https://datasheet.ciiva.com/6596/lm5002-6596406.pdf?src-supplier=Digi-Key
footprint D0008A_M (SOIC, 8-Leads, Body 5x4mm, Pitch 1.27mm, IPC Low Density)
pins: 1 SW, 2 VIN, 3 VCC, 4 GND, 5 RT, 6 FB, 7 COMP, 8 EN

## LM5113SD/NOPB
designator U*
Half-Bridge Gate Driver IC Non-Inverting 10-WSON (4x4); Manufacturer: TI National Semiconductor; Max Output Current: 5A; Fall Time: 4ns; Max Supply Voltage: 5.5V; Min Supply Voltage: 4.5V; Number of Channels: 2; Operating Supply Current: 100uA; Operating Supply Voltage: 5V; Propagation Delay: 30ns; Turn-Off Delay Time: 2ns; Category: Gate Drivers; Lead Free: Lead Free; Max Operating Temperature: 125°C; Min Operating Temperature: -40°C; Mount: Surface Mount; Number of Drivers: 2; Number of Outputs: 2; Number of Pins: 10; Output Current: 5A; Packaging: Tape and Reel; Radiation Hardening: No; REACH SVHC: No SVHC; Rise Time: 4ns; RoHS Compliant: Yes; Series: LM5113; Turn-On Delay Time: 2ns; Supplier 1: Digi-Key; Supplier Part Number 1: LM5113SD/NOPBCT-ND; Supplier Packaging 1: Cut Tape; Supplier Unit Price 1: $6.36; Supplier Location 1: US; Supplier 2: Mouser; Supplier Part Number 2: 926-LM5113SD/NOPB; Supplier Packaging 2: Tape & Reel; Supplier Unit Price 2: $6.36; Supplier Location 2: US; Supplier 3: Farnell; Supplier Part Number 3: 2781701; Supplier Unit Price 3: £5.09; Supplier Location 3: GB; Manufacturer Part Number: LM5113SD/NOPB
footprint WSON-10
pins: 1 VDD, 2 HB, 3 HOH, 4 HOL, 5 HS, 6 HI, 7 LI, 8 VSS, 9 LOL, 10 LOH, 11 EP

## LMK107BJ106MALTD
designator C?, comment 10uF/10V  Capacitance: 10uF  Voltage Rating: 10V
10 µF 10V ±20%  Ceramic Capacitor X5R 0603 (1608 Metric); Manufacturer: Taiyo Yuden; Manufacturer Part Number: LMK107BJ106MALTD; Case Code (Imperial): 0603; Case Code (Metric): 1608; Case/Package: 0603; Category: Ceramic Capacitors; Construction: Flat; Dielectric: X5R; Height: 0.8mm; Lead Free: Lead Free; Length: 1.6mm; Max Operating Temperature: 85°C; Min Operating Temperature: -55°C; Mount: Surface Mount; Number of Pins: 2; Package Quantity: 4000; Packaging: Tape and Reel; REACH SVHC: No SVHC; Resistor Type: Ceramic; RoHS Compliant: Yes; Series: M; Termination: SMD/SMT; Thickness: 0.035inch; Tolerance: 20%; Voltage Rating (DC): 10V; Width: 0.031inch; ComponentLink1URL: https://datasheet.ciiva.com/140/mlcc-all-e-140193.pdf?src-supplier=Digi-Key; ComponentLink1Description: https://datasheet.ciiva.com/140/mlcc-all-e-140193.pdf?src-supplier=Digi-Key; Supplier 1: Digi-Key; Supplier 2: Mouser; Supplier Part Number 1: 587-2562-6-ND; Supplier Part Number 2: 963-LMK107BJ106MALTD
footprint FP-LMK107BJ106MALTD-IPC_B
pins: 1 G, 2 G

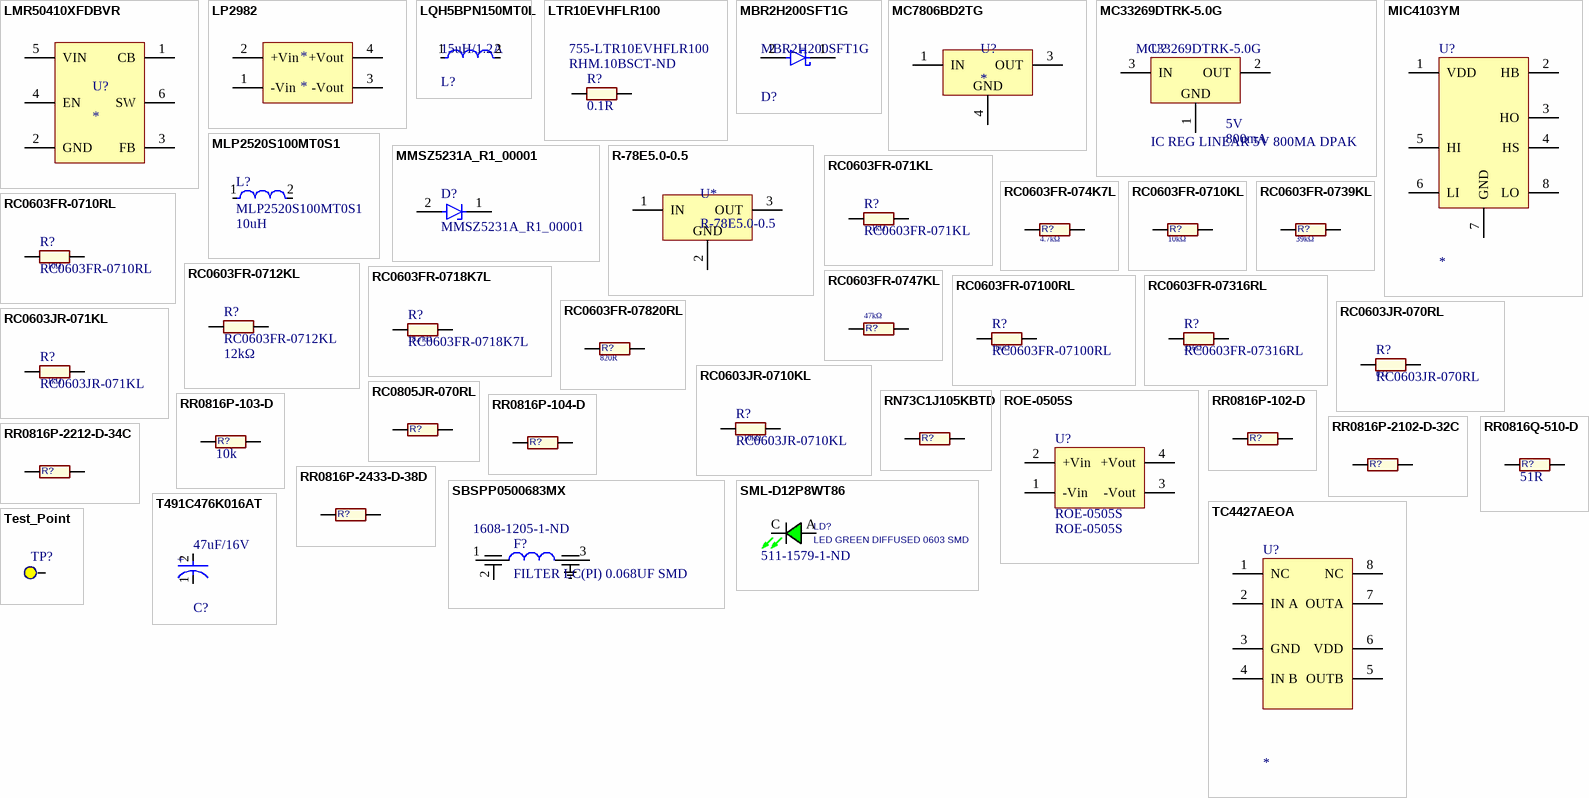
[diagram p1: symbols LMR50410XFDBVR to Test_Point]

## LMR50410XFDBVR
designator U?
Buck Switching Regulator IC Positive Adjustable 1V 1 Output 1A SOT-23-6; Manufacturer: Texas Instruments; Manufacturer Part Number: LMR50410XFDBVR
footprint SOT-23 (Pitch 0.95mm)
pins: 1 CB, 2 GND, 3 FB, 4 EN, 5 VIN, 6 SW

## LP2982
designator *
pins: 1 -Vin (power), 2 +Vin (power), 3 -Vout (power), 4 +Vout (power)

## LQH5BPN150MT0L
designator L?, comment 15uH/1.2A
15µH Shielded Wirewound Inductor 1.2A 187mOhm Max Nonstandard; Core Material: Ferrite; Inductance: 15uH; Saturation Current: 1.6A; Test Frequency: 100kHz; Self Resonant Frequency: 18MHz; Tolerance: 20%; DC Resistance (DCR): 225mR; Max Operating Temperature: 85°C; Length: 0.197inch; Depth: 5.2mm; REACH SVHC: No SVHC; Package Quantity: 500; Packaging: Tape and Reel; Resistor Type: Wirewound; Inductance Tolerance: 20%; Military Standard: Not; DC Current: 1.2A; Min Operating Temperature: -40°C; Current Rating: 1.2A; Case Code (Metric): 5050; Height - Seated (Max): 0.086inch; Case/Package: 2020; Termination: SMD/SMT; Case Code (Imperial): 2020; Shielding: Shielded; Height: 2mm; Width: 5mm; Max DC Current: 1.6A; Mount: Surface Mount
footprint FP-LQH5BPB_T0-MFG
pins: 1, 2

## LTR10EVHFLR100
designator R?, comment 0.1R  Supplier Part Number 1: RHM.10BSCT-ND  Supplier Part Number 2: 755-LTR10EVHFLR100
100 mOhms ±1% 0.5W, 1/2W Chip Resistor Wide 0805 (2012 Metric), 0508 Automotive AEC-Q200, Current Sense Thick Film; Manufacturer: Rohm; Manufacturer Part Number: LTR10EVHFLR100; Max Power Dissipation: 500mW; Resistance: 100mR; Temperature Coefficient: 150ppm/°C; Case Code (Imperial): 0805; Case Code (Metric): 2012; Case/Package: 0805; Category: Chip SMD Resistors; Features: Automotive AEC-Q200; Height: 0.026inch; Lead Free: Lead Free; Length: 0.047inch; Max Operating Temperature: 155°C; Min Operating Temperature: -55°C; Number of Terminations: 2; Package Quantity: 1; Packaging: Tape and Reel; Resistor Type: Thick Film; RoHS Compliant: Yes; Series: LTR; Tolerance: 1%; Width: 0.079inch; ComponentLink1URL: https://datasheet.ciiva.com/2480/ltr-low-2480848.pdf?src-supplier=Digi-Key; ComponentLink1Description: https://datasheet.ciiva.com/2480/ltr-low-2480848.pdf?src-supplier=Digi-Key; Supplier 1: Digi-Key; Supplier 2: Mouser
footprint FP-LTR10-low-IPC_B
pins: 1, 2

## MBR2H200SFT1G
designator D?
DIODE SCHOTTKY 200V 2A SOD123FL; Manufacturer: ON Semiconductor; Peak Reverse Current: 200uA; Max Surge Forward Current: 30A; Max Junction Temp: +150°C; Standoff Height: 0mm; Device Class L1: Discrete Semiconductors; Package: 498; Temperature Range High: +150°C; Height: 0.98mm; Temperature: -55°C to +150°C; Forward Current: 2A; Octopart: https://octopart.com/mbr2h200sft1g-on+semiconductor-51167333; Reverse Voltage: 200V; Max Repetitive Reverse Voltage: 200V; RoHS: TRUE; Lead Free: Yes; Footprint Url: https://www.onsemi.com/pub/Collateral/498-01.PDF; ComponentLink2Description: Datasheet; Category: Diode; Manufacturer Part Number: MBR2H200SFT1G; Digikey Description: DIODE SCHOTTKY 200V 2A SOD123FL; Device Class L3: Schottky Diodes; Temperature Range Low: -55°C; ComponentLink2URL: https://www.onsemi.com/pub/Collateral/MBR2H200SF-D.PDF; Automotive: No; Device Class L2: Diodes
footprint FP-498-MFG
pins: 1 C, 2 A

## MC7806BD2TG
designator U?
IC REG LINEAR 6V 1A D2PAK; Manufacturer: ON Semiconductor; Manufacturer Part Number: MC7806BD2TG; Accuracy: 4%; Dropout Voltage: 2V; Max Input Voltage: 35V; Number of Outputs: 1; Output Type: Fixed; Polarity: Positive; Quiescent Current: 8mA; Case/Package: D2PAK; Category: Voltage Regulators - Linear; Contact Plating: Tin,Matte; Halogen Free: Halogen Free; Height: 4.572mm; Lead Free: Lead Free; Length: 10.24mm; Max Operating Temperature: 125°C; Max Output Current: 1A; Min Input Voltage: 35V; Min Operating Temperature: -40°C; Min Output Voltage: 6V; Mount: Surface Mount; Number of Pins: 3; Number of Regulators: 1; Output Current: 1A; Output Voltage: 6V; Output Voltage Accuracy: 4%; Package Quantity: 50; Packaging: Rail/Tube; Radiation Hardening: No; RoHS Compliant: Yes; Series: -; Width: 9.347mm; ComponentLink1URL: https://datasheet.ciiva.com/6581/mc7800-d-6581174.pdf?src-supplier=Digi-Key; ComponentLink1Description: https://datasheet.ciiva.com/6581/mc7800-d-6581174.pdf?src-supplier=Digi-Key
footprint D2PAK (DPAK, 3-Leads, Body 10.24x9.35mm, Pitch 2.54mm)
pins: 1 IN (power), 3 OUT (power), 4 GND (power)

## MC33269DTRK-5.0G
designator U?, comment IC REG LINEAR 5V 800MA DPAK  Manufacturer Part Number: MC33269DTRK-5.0G  Nominal Output Voltage: 5V  Max Output Current: 800mA
Linear Voltage Regulator IC Positive Fixed 1 Output 800mA DPAK; Manufacturer: ON Semiconductor; Accuracy: 1%; Dropout Voltage: 1.1V; Max Input Voltage: 20V; Number of Outputs: 1; Quiescent Current: 20mA; Case/Package: DPAK; Category: Voltage Regulators - Linear; Contact Plating: Tin,Matte; Halogen Free: Halogen Free; Lead Free: Lead Free; Max Operating Temperature: 125°C; Min Current Limit: 800mA; Min Operating Temperature: -40°C; Min Output Voltage: 5V; Mount: Surface Mount; Number of Pins: 3; Number of Regulators: 1; Output Current: 800mA; Output Type: Fixed; Output Voltage: 5V; Output Voltage Accuracy: 1%; Package Quantity: 1; Packaging: Tape and Reel; Polarity: Positive; Radiation Hardening: No; REACH SVHC: No SVHC; RoHS Compliant: Yes; Series: -; ComponentLink1URL: https://datasheet.ciiva.com/2061/mc33269-d-2061282.pdf?src-supplier=Digi-Key; ComponentLink1Description: https://datasheet.ciiva.com/2061/mc33269-d-2061282.pdf?src-supplier=Digi-Key; Supplier 1: Mouser; Supplier 2: Digi-Key; Supplier Part Number 1: 863-MC33269DTRK-5.0G; Supplier Part Number 2: MC33269DTRK-5.0GOSDKR-ND
footprint DPAK
pins: 1 GND (power), 2 OUT (power), 3 IN (power)

## MIC4103YM
designator U?
Manufacturer: Microchip; Manufacturer Part Number: MIC4103YM; Turn-On Delay Time: 45ns; Channel Type: Independent; Element Configuration: Single; Fall Time: 6ns; Max Output Current: 3A; Max Supply Voltage: 16V; Min Supply Voltage: 9V; Nominal Supply Current: 3mA; Number of Drivers: 2; Number of Outputs: 1; Output Impedance: 2.5R; Propagation Delay: 24ns; Rise Time: 10ns; Supplier 1: Digi-Key; Parameter 1: *; Supplier Part Number 1: 576-1589-ND; ComponentLink1URL: https://datasheet.ciiva.com/1950/mic4103-4-1950412.pdf?src-supplier=Digi-Key; ComponentLink1Description: https://datasheet.ciiva.com/1950/mic4103-4-1950412.pdf?src-supplier=Digi-Key; Case/Package: SOIC; Category: Gate Drivers; Lead Free: Lead Free; Max Operating Temperature: 125°C; Min Operating Temperature: -40°C; Mount: Surface Mount; Number of Pins: 8; Package Quantity: 95; Packaging: Tray; REACH SVHC: No SVHC; RoHS Compliant: Yes; Series: -; Supply Current: 3mA; Turn-Off Delay Time: 45ns
footprint 8-Pin SOIC (M) (Pitch 1.27mm)
pins: 1 VDD, 2 HB, 3 HO, 4 HS, 5 HI, 6 LI, 7 GND, 8 LO

## MLP2520S100MT0S1
designator L?  Inductance: 10uH
10 µH Shielded Multilayer Inductor 700 mA 364mOhm Max 1008 (2520 Metric); Manufacturer: TDK; Core Material: Ferrite; Current Rating: 700mA; DC Resistance (DCR): 364mR; Test Frequency: 2MHz; Tolerance: 20%; Supplier Location 2: US; Case Code (Imperial): 1008; Case Code (Metric): 2520; Case/Package: 1008; Category: Fixed Inductors; Height - Seated (Max): 0.047inch; Length: 0.098inch; Max Operating Temperature: 125°C; Min Operating Temperature: -40°C; Mount: Surface Mount; Package Quantity: 3000; Packaging: Tape and Reel; RoHS Compliant: Yes; Shielding: Shielded; Width: 0.079inch; Supplier 1: Digi-Key; Supplier Part Number 1: 445-9504-1-ND; Supplier Packaging 1: Cut Tape; Supplier Unit Price 1: $0.40; Supplier Location 1: US; Supplier 2: Mouser; Supplier Part Number 2: 810-MLP2520S100MT0S1; Supplier Packaging 2: Tape & Reel; Supplier Unit Price 2: $0.41; Supplier 3: Farnell; Supplier Part Number 3: 3386718; Supplier Unit Price 3: £0.229; Supplier Location 3: GB; Manufacturer Part Number: MLP2520S100MT0S1
footprint FP-MLP2520M-IPC_A
footprint FP-MLP2520M-IPC_B
footprint FP-MLP2520M-IPC_C
footprint FP-MLP2520M-MFG
pins: 1, 2

## MMSZ5231A_R1_00001
designator D?
Zener Diode 5.1 V 500 mW ±1.96% Surface Mount SOD-123; Manufacturer: Pan Jit; Element Configuration: Single; Max Power Dissipation: 500mW; Max Reverse Leakage Current: 5uA; Zener Voltage: 5.1V; Radiation Hardening: No; Category: Zener Diodes; Max Operating Temperature: 150°C; Min Operating Temperature: -50°C; Mount: Surface Mount; Number of Pins: 2; RoHS Compliant: Yes; Supplier 1: Digi-Key; Supplier Part Number 1: 3757-MMSZ5231A_R1_00001CT-ND; Supplier Unit Price 1: $0.20; Supplier Location 1: US; Supplier 2: Mouser; Supplier Part Number 2: 241-MMSZ5231AR100001; Supplier Unit Price 2: $0.20; Supplier Location 2: US; Manufacturer Part Number: MMSZ5231A_R1_00001
footprint SOD-123 (SOD, 2-Leads, Body 1.55x3.70mm, IPC Medium Density)
pins: 1 C, 2 A

## R-78E5.0-0.5
designator U*
footprint VREG
pins: 1 IN (power), 2 GND (power), 3 OUT (power)

## RC0603FR-071KL
designator R?  Resistance: 1kΩ
1 kOhms ±1% 0.1W, 1/10W Chip Resistor 0603 (1608 Metric) Moisture Resistant Thick Film; Manufacturer: Yageo; Max Power Dissipation: 100mW; Temperature Coefficient: 100ppm/°C; Voltage Rating: 50V; Case Code (Imperial): 0603; Case Code (Metric): 1608; Case/Package: 0603; Category: Chip SMD Resistors; Construction: Rectangular; Contact Plating: Tin,Matte; Depth: 0.8mm; Features: Moisture Resistant; Height: 0.45mm; Lead Free: Lead Free; Length: 1.6mm; Max Operating Temperature: 155°C; Military Standard: Not; Min Operating Temperature: -55°C; Number of Terminations: 2; Packaging: Tape and Reel; Power Rating: 100mW; Radiation Hardening: No; REACH SVHC: No SVHC; Resistance Tolerance: 1%; Resistor Type: Thick Film; RoHS Compliant: Yes; Series: RC; Size Code: 0603; Technology: THICK FILM; Termination: SMD/SMT; Tolerance: 1%; Supplier 1: Digi-Key; Supplier Part Number 1: 311-1.00KHRCT-ND; Supplier Packaging 1: Cut Tape; Supplier Unit Price 1: $0.10; Supplier Location 1: US; Supplier 2: Mouser; Supplier Part Number 2: 603-RC0603FR-071KL; Supplier Packaging 2: Tape & Reel; Supplier Unit Price 2: $0.10; Supplier Location 2: US; Manufacturer Part Number: RC0603FR-071KL
footprint RES 0603_1608 (Chip Resistor, 2-Leads, Body 1.60x0.80mm, IPC Medium Density)
pins: 1, 2

## RC0603FR-074K7L
designator R?  Resistance: 4.7kΩ  (hidden comment: RC0603FR-074K7L)
4.7 kOhms ±1% 0.1W, 1/10W Chip Resistor 0603 (1608 Metric) Moisture Resistant Thick Film; Manufacturer: Yageo; Max Power Dissipation: 100mW; Temperature Coefficient: 100ppm/°C; Voltage Rating: 50V; Supplier 1: Digi-Key; Case Code (Imperial): 0603; Case Code (Metric): 1608; Case/Package: 0603; Category: Chip SMD Resistors; Construction: Rectangular; Depth: 0.8mm; Features: Moisture Resistant; Height: 0.45mm; Lead Free: Lead Free; Lead Pitch: 0.3mm; Length: 1.6mm; Max Operating Temperature: 155°C; Military Standard: Not; Min Operating Temperature: -55°C; Number of Pins: 2; Number of Terminations: 2; Packaging: Tape and Reel; Power Rating: 100mW; REACH SVHC: No SVHC; Resistance Tolerance: 1%; Resistor Type: Thick Film; RoHS Compliant: Yes; Series: RC; Size Code: 0603; Termination: SMD/SMT; Tolerance: 1%; Voltage Rating (DC): 50V; Width: 0.8mm; Supplier Part Number 1: 311-4.70KHRCT-ND; Supplier Packaging 1: Cut Tape; Supplier Unit Price 1: $0.10; Supplier Location 1: US; Supplier 2: Mouser; Supplier Part Number 2: 603-RC0603FR-074K7L; Supplier Packaging 2: Tape & Reel; Supplier Unit Price 2: $0.10; Supplier Location 2: US; Supplier 3: Farnell; Supplier Part Number 3: 9238565; Supplier Packaging 3: Cut Tape; Supplier Unit Price 3: £0.0198; Supplier Location 3: GB; Manufacturer Part Number: RC0603FR-074K7L
footprint RES 0603_1608 (Chip Resistor, 2-Leads, Body 1.60x0.80mm, IPC Medium Density)
pins: 1, 2